# Altium schematic symbol library Semiconductor.SchLib: 28 symbols
Pins are listed as number, name and electrical type; pins without a type are passive.

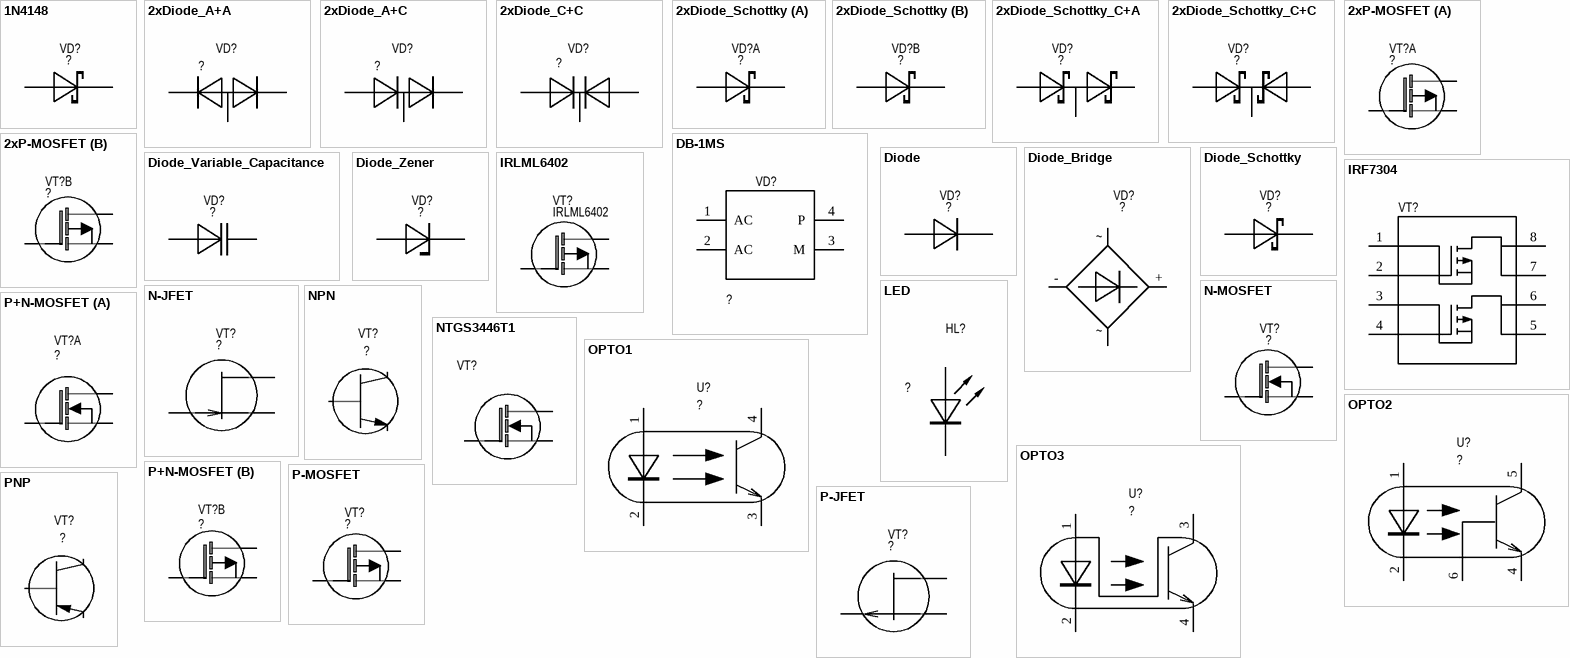
[diagram p0: symbols 1N4148 to PNP]

## 1N4148
designator VD?
Type: ?; value: ?
footprint SOD-123 (SOIC, 2-Leads, Body 2,60x1,60mm, Pitch 1,27mm, IPC Medium Density)
pins: A Anode, C Cathode

## 2xDiode_A+A
designator VD?
Type: ?; value: ?
pins: A Anode, C1 Cathode1, C2 Cathode2

## 2xDiode_A+C
designator VD?
Type: ?; value: ?
pins: A1 Anode1, A1C2 Main, C2 Cathode2

## 2xDiode_C+C
designator VD?
Type: ?; value: ?
pins: A1 Anode1, A2 Anode2, C Cathode

## 2xDiode_Schottky
designator VD?
Type: ?; value: ?
part A pins: A1 Anode1, C1 Cathode1
part B pins: A2 Anode2, C2 Cathode2

## 2xDiode_Schottky_C+A
designator VD?
Type: ?; value: ?
pins: A1, C2, main

## 2xDiode_Schottky_C+C
designator VD?
Type: ?; value: ?
pins: A1, A2, main

## 2xP-MOSFET
designator VT?
Type: ?; value: ?
part A pins: D1 Drain1, G1 Gate1, S1 Source1
part B pins: D2 Drain2, G2 Gate2, S2 Source2

## DB-1MS
designator VD?
Type: ?; value: ?
footprint DB1MA (diod bridge)
pins: 1 AC, 2 AC, 3 M, 4 P

## Diode
designator VD?
Type: ?; value: ?
pins: A Anode, C Cathode

## Diode_Bridge
designator VD?
Type: ?; value: ?
pins: +, -, in1, in2
text: ~

## Diode_Schottky
designator VD?
Type: ?; value: ?
pins: A Anode, C Cathode

## Diode_Variable_Capacitance
designator VD?
Type: ?; value: ?
pins: A Anode, C Cathode

## Diode_Zener
designator VD?
Type: ?; value: ?
pins: A Anode, C Cathode

## IRF7304
designator VT?
2 p-mosfet; Type: ?; value: ?
footprint So-8
pins: 1 S1, 2 G1, 3 S2, 4 G2, 5 D2, 6 D2, 7 D1, 8 D1

## IRLML6402
designator VT?  value IRLML6402
p-mosfet   -20V 3.7A; Type: ?
footprint SOT-23-3; pin to pad D>c G>b S>e
pins: D Drain, G Gate, S Source

## LED
designator HL?
Type: ?; value: ?
pins: A Anode, C Cathode

## N-JFET
designator VT?
Type: ?; value: ?
pins: D Drain, G Gate, S Source

## N-MOSFET
designator VT?
Type: ?; value: ?
pins: D Drain, G Gate, S Source

## NPN
designator VT?
Type: ?; value: ?
pins: b Base, c Collector, e Emitter

## NTGS3446T1
designator VT?  (value not drawn)
Low Vgs
footprint SOT-23-6
pins: 1 Drain, 2 Drain, 3 Gate, 4 Source, 5 Drain, 6 Drain

## OPTO1
designator U?
Type: ?; value: ?
pins: 1 Anode, 2 Cathode, 3 Emitter, 4 Collector

## OPTO2
designator U?
Type: ?; value: ?
pins: 1 Anode, 2 Cathode, 4 Emitter, 5 Collector, 6 Base

## OPTO3
designator U?
Type: ?; value: ?
pins: 1 Anode, 2 Cathode, 3 Collector, 4 Emitter

## P+N-MOSFET
designator VT?
Type: ?; value: ?
part A pins: D1 Drain1, G1 Gate1, S1 Source1
part B pins: D2 Drain2, G2 Gate2, S2 Source2

## P-JFET
designator VT?
Type: ?; value: ?
pins: D Drain, G Gate, S Source

## P-MOSFET
designator VT?
Type: ?; value: ?
pins: D Drain, G Gate, S Source

## PNP
designator VT?
Type: ?; value: ?
pins: b Base, c Collector, e Emitter